# EAGLE library part EA_DOGM132-5 (library talons)
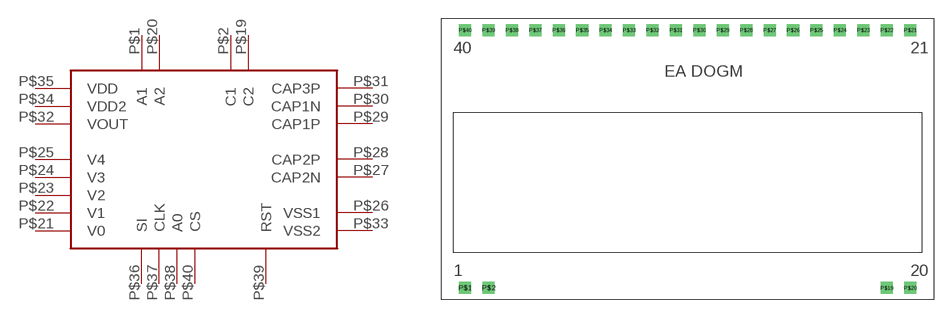
[diagram p1: symbol with the pads of EA_DOGM132-5; footprint EA_DOGM132-5]

Designator prefix -

## EA_DOGM132-5  [EA_DOGM132-5]
P$1  A1  pwr
P$2  C1  sup
P$19  C2  sup
P$20  A2  pwr
P$21  V0  out
P$22  V1  out
P$23  V2  out
P$24  V3  out
P$25  V4  out
P$26  VSS1  sup
P$27  CAP2N  in
P$28  CAP2P  out
P$29  CAP1P  out
P$30  CAP1N  in
P$31  CAP3P  out
P$32  VOUT  pwr
P$33  VSS2  sup
P$34  VDD2  pwr
P$35  VDD  pwr
P$36  SI  in
P$37  CLK  in
P$38  A0  in
P$39  RST  in
P$40  CS  in

## Footprint EA_DOGM132-5 (pad centres in mm)
drill 0.8 square: P$1 -24.13,-19.05; P$2 -21.59,-19.05; P$19 21.59,-19.05; P$20 24.13,-19.05; P$21 24.13,8.89; P$22 21.59,8.89; P$23 19.05,8.89; P$24 16.51,8.89; P$25 13.97,8.89; P$26 11.43,8.89; P$27 8.89,8.89; P$28 6.35,8.89; P$29 3.81,8.89; P$30 1.27,8.89; P$31 -1.27,8.89; P$32 -3.81,8.89; P$33 -6.35,8.89; P$34 -8.89,8.89; P$35 -11.43,8.89; P$36 -13.97,8.89; P$37 -16.51,8.89; P$38 -19.05,8.89; P$39 -21.59,8.89; P$40 -24.13,8.89